# EAGLE library part STMICROELECTRONICS-MICROCONTROLLER-STM32F412ZGT6TR (library Module_ICs)
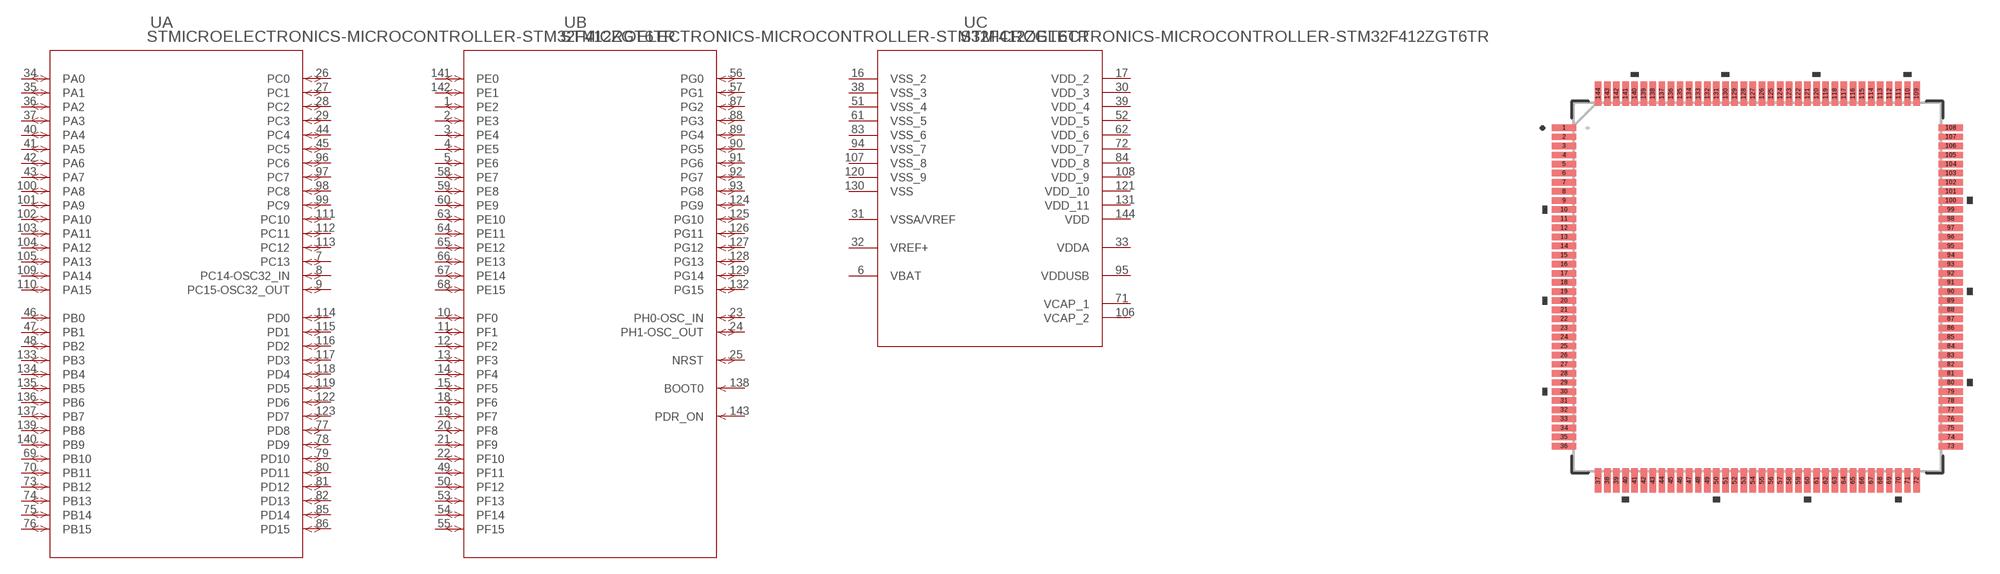
[diagram p73: symbol with the pads of STMICROELECTRONICS-MICROCONTROLLER-STM32F412ZGT6TR; footprint STMICROELECTRONICS-MICROCONTROLLER-STM32F412ZGT6TR]

Designator prefix U; gates A=STM32F4XXZ2_A B=STM32F4XXZ2_B C=STM32F4XXZ2

## STMICROELECTRONICS-MICROCONTROLLER-STM32F412ZGT6TR (BUILT_BY: EMA_UL_Team; COPYRIGHT: Copyright (C) 2018 Accelerated Designs. All rights reserved; MANUFACTURER_PART_NUMBER: STM32F412ZGT6TR; SOURCELIBRARY: STMicroelectronics_2020-10-07; VENDOR: STMicroelectronics)  [STMICROELECTRONICS-MICROCONTROLLER-STM32F412ZGT6TR]
1  B:PE2
2  B:PE3
3  B:PE4
4  B:PE5
5  B:PE6
6  C:VBAT  pwr
7  A:PC13
8  A:PC14-OSC32_IN
9  A:PC15-OSC32_OUT
10  B:PF0
11  B:PF1
12  B:PF2
13  B:PF3
14  B:PF4
15  B:PF5
16  C:VSS_2  pwr
17  C:VDD_2  pwr
18  B:PF6
19  B:PF7
20  B:PF8
21  B:PF9
22  B:PF10
23  B:PH0-OSC_IN
24  B:PH1-OSC_OUT
25  B:NRST
26  A:PC0
27  A:PC1
28  A:PC2
29  A:PC3
30  C:VDD_3  pwr
31  C:VSSA/VREF  pwr
32  C:VREF+  pwr
33  C:VDDA  pwr
34  A:PA0
35  A:PA1
36  A:PA2
37  A:PA3
38  C:VSS_3  pwr
39  C:VDD_4  pwr
40  A:PA4
41  A:PA5
42  A:PA6
43  A:PA7
44  A:PC4
45  A:PC5
46  A:PB0
47  A:PB1
48  A:PB2
49  B:PF11
50  B:PF12
51  C:VSS_4  pwr
52  C:VDD_5  pwr
53  B:PF13
54  B:PF14
55  B:PF15
56  B:PG0
57  B:PG1
58  B:PE7
59  B:PE8
60  B:PE9
61  C:VSS_5  pwr
62  C:VDD_6  pwr
63  B:PE10
64  B:PE11
65  B:PE12
66  B:PE13
67  B:PE14
68  B:PE15
69  A:PB10
70  A:PB11
71  C:VCAP_1  pwr
72  C:VDD_7  pwr
73  A:PB12
74  A:PB13
75  A:PB14
76  A:PB15
77  A:PD8
78  A:PD9
79  A:PD10
80  A:PD11
81  A:PD12
82  A:PD13
83  C:VSS_6  pwr
84  C:VDD_8  pwr
85  A:PD14
86  A:PD15
87  B:PG2
88  B:PG3
89  B:PG4
90  B:PG5
91  B:PG6
92  B:PG7
93  B:PG8
94  C:VSS_7  pwr
95  C:VDDUSB  pwr
96  A:PC6
97  A:PC7
98  A:PC8
99  A:PC9
100  A:PA8
101  A:PA9
102  A:PA10
103  A:PA11
104  A:PA12
105  A:PA13
106  C:VCAP_2  pwr
107  C:VSS_8  pwr
108  C:VDD_9  pwr
109  A:PA14
110  A:PA15
111  A:PC10
112  A:PC11
113  A:PC12
114  A:PD0
115  A:PD1
116  A:PD2
117  A:PD3
118  A:PD4
119  A:PD5
120  C:VSS_9  pwr
121  C:VDD_10  pwr
122  A:PD6
123  A:PD7
124  B:PG9
125  B:PG10
126  B:PG11
127  B:PG12
128  B:PG13
129  B:PG14
130  C:VSS  pwr
131  C:VDD_11  pwr
132  B:PG15
133  A:PB3
134  A:PB4
135  A:PB5
136  A:PB6
137  A:PB7
138  B:BOOT0  in
139  A:PB8
140  A:PB9
141  B:PE0
142  B:PE1
143  B:PDR_ON  in
144  C:VDD  pwr

## Footprint STMICROELECTRONICS-MICROCONTROLLER-STM32F412ZGT6TR (pad centres in mm)
smd 1.346 x 0.356: 1 -10.625,8.75; 2 -10.625,8.25; 3 -10.625,7.75; 4 -10.625,7.25; 5 -10.625,6.75; 6 -10.625,6.25; 7 -10.625,5.75; 8 -10.625,5.25; 9 -10.625,4.75; 10 -10.625,4.25; 11 -10.625,3.75; 12 -10.625,3.25; 13 -10.625,2.75; 14 -10.625,2.25; 15 -10.625,1.75; 16 -10.625,1.25; 17 -10.625,0.75; 18 -10.625,0.25; 19 -10.625,-0.25; 20 -10.625,-0.75; 21 -10.625,-1.25; 22 -10.625,-1.75; 23 -10.625,-2.25; 24 -10.625,-2.75; 25 -10.625,-3.25; 26 -10.625,-3.75; 27 -10.625,-4.25; 28 -10.625,-4.75; 29 -10.625,-5.25; 30 -10.625,-5.75; 31 -10.625,-6.25; 32 -10.625,-6.75; 33 -10.625,-7.25; 34 -10.625,-7.75; 35 -10.625,-8.25; 36 -10.625,-8.75; 73 10.625,-8.75; 74 10.625,-8.25; 75 10.625,-7.75; 76 10.625,-7.25; 77 10.625,-6.75; 78 10.625,-6.25; 79 10.625,-5.75; 80 10.625,-5.25; 81 10.625,-4.75; 82 10.625,-4.25; 83 10.625,-3.75; 84 10.625,-3.25; 85 10.625,-2.75; 86 10.625,-2.25; 87 10.625,-1.75; 88 10.625,-1.25; 89 10.625,-0.75; 90 10.625,-0.25; 91 10.625,0.25; 92 10.625,0.75; 93 10.625,1.25; 94 10.625,1.75; 95 10.625,2.25; 96 10.625,2.75; 97 10.625,3.25; 98 10.625,3.75; 99 10.625,4.25; 100 10.625,4.75; 101 10.625,5.25; 102 10.625,5.75; 103 10.625,6.25; 104 10.625,6.75; 105 10.625,7.25; 106 10.625,7.75; 107 10.625,8.25; 108 10.625,8.75
smd 0.356 x 1.346: 37 -8.75,-10.625; 38 -8.25,-10.625; 39 -7.75,-10.625; 40 -7.25,-10.625; 41 -6.75,-10.625; 42 -6.25,-10.625; 43 -5.75,-10.625; 44 -5.25,-10.625; 45 -4.75,-10.625; 46 -4.25,-10.625; 47 -3.75,-10.625; 48 -3.25,-10.625; 49 -2.75,-10.625; 50 -2.25,-10.625; 51 -1.75,-10.625; 52 -1.25,-10.625; 53 -0.75,-10.625; 54 -0.25,-10.625; 55 0.25,-10.625; 56 0.75,-10.625; 57 1.25,-10.625; 58 1.75,-10.625; 59 2.25,-10.625; 60 2.75,-10.625; 61 3.25,-10.625; 62 3.75,-10.625; 63 4.25,-10.625; 64 4.75,-10.625; 65 5.25,-10.625; 66 5.75,-10.625; 67 6.25,-10.625; 68 6.75,-10.625; 69 7.25,-10.625; 70 7.75,-10.625; 71 8.25,-10.625; 72 8.75,-10.625; 109 8.75,10.625; 110 8.25,10.625; 111 7.75,10.625; 112 7.25,10.625; 113 6.75,10.625; 114 6.25,10.625; 115 5.75,10.625; 116 5.25,10.625; 117 4.75,10.625; 118 4.25,10.625; 119 3.75,10.625; 120 3.25,10.625; 121 2.75,10.625; 122 2.25,10.625; 123 1.75,10.625; 124 1.25,10.625; 125 0.75,10.625; 126 0.25,10.625; 127 -0.25,10.625; 128 -0.75,10.625; 129 -1.25,10.625; 130 -1.75,10.625; 131 -2.25,10.625; 132 -2.75,10.625; 133 -3.25,10.625; 134 -3.75,10.625; 135 -4.25,10.625; 136 -4.75,10.625; 137 -5.25,10.625; 138 -5.75,10.625; 139 -6.25,10.625; 140 -6.75,10.625; 141 -7.25,10.625; 142 -7.75,10.625; 143 -8.25,10.625; 144 -8.75,10.625